# Altium footprint library Aluminum Electrolytic Capacitor.PcbLib: 3 footprints
Each footprint in its own frame and in the unit in brackets; x right, y up, seen from the top. Pads: shape width x height; smd on the part's side, far side on the other; paste and mask are expansions set on the pad; w line width, h text height; cw(c..) or ccw(c..) is an arc to the next point about the centre after c.
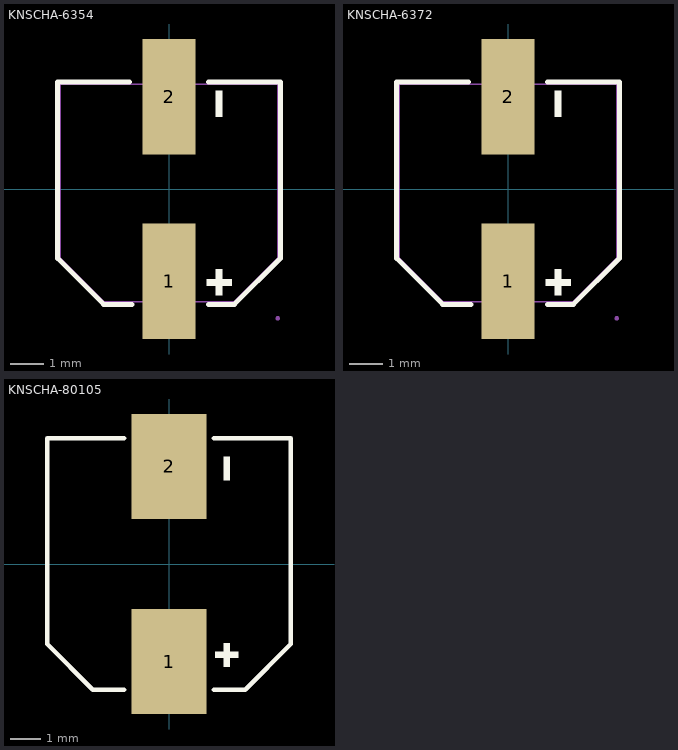
[diagram p0: the footprints below, top view; thin cyan lines are the x and y axes]

## KNSCHA-6354 [mm] "KNSCHA(科尼盛) 6.3x5.4mm 推荐焊盘"
pads (2):
  rect 1.6x3.5 smd: 1(0,-2.8) 2(0,2.8)
Top Overlay:
  region: 1.419,2.978 1.617,2.978 1.617,2.186 1.419,2.186
  region: 1.419,-3.226 1.617,-3.226 1.617,-2.434 1.419,-2.434
  region: 1.143,-2.929 1.905,-2.929 1.905,-2.731 1.143,-2.731
  lines w0.152: -1.2,-3.5 -1.12,-3.5 -1.981,-3.5 -3.376,-2.103 -3.376,3.251 -1.2,3.251 ; 1.2,-3.5 1.981,-3.5 3.376,-2.105 3.376,3.251 1.2,3.251
Mechanical 6:
  region: -0.099,2.978 0.099,2.978 0.099,2.186 -0.099,2.186
  region: -0.099,-3.226 0.099,-3.226 0.099,-2.434 -0.099,-2.434
  region: -0.66,-2.929 0.66,-2.929 0.66,-2.731 -0.66,-2.731
Mechanical 15:
  region: 3.3,-3.864 3.325,-3.864 3.36,-3.899 3.36,-3.949 3.325,-3.984 3.3,-3.984 3.275,-3.984 3.24,-3.949 3.24,-3.899 3.275,-3.864 3.3,-3.864
  region: -0.475,-3.924 -0.475,-1.374 0.475,-1.374 0.475,-3.924
  region: -0.475,1.126 -0.475,3.676 0.475,3.676 0.475,1.126
  lines w0.051: -3.3,-2.104 -1.98,-3.424 1.98,-3.424 3.3,-2.104 3.3,3.176 -3.3,3.176 -3.3,-2.104
3D body "Aluminum Electrolytic Capacitors-6.3x5.8.step": height 5.82, standoff 0, extent -3.3,-3.65 3.3,3.65

## KNSCHA-6372 [mm] "KNSCHA(科尼盛) 6.3x7.2mm 推荐焊盘"
pads (2):
  rect 1.6x3.5 smd: 1(0,-2.8) 2(0,2.8)
Top Overlay:
  region: 1.419,2.978 1.617,2.978 1.617,2.186 1.419,2.186
  region: 1.419,-3.226 1.617,-3.226 1.617,-2.434 1.419,-2.434
  region: 1.143,-2.929 1.905,-2.929 1.905,-2.731 1.143,-2.731
  lines w0.152: -1.2,-3.5 -1.12,-3.5 -1.981,-3.5 -3.376,-2.103 -3.376,3.251 -1.2,3.251 ; 1.2,-3.5 1.981,-3.5 3.376,-2.105 3.376,3.251 1.2,3.251
Mechanical 6:
  region: -0.099,2.978 0.099,2.978 0.099,2.186 -0.099,2.186
  region: -0.099,-3.226 0.099,-3.226 0.099,-2.434 -0.099,-2.434
  region: -0.66,-2.929 0.66,-2.929 0.66,-2.731 -0.66,-2.731
Mechanical 15:
  region: 3.3,-3.864 3.325,-3.864 3.36,-3.899 3.36,-3.949 3.325,-3.984 3.3,-3.984 3.275,-3.984 3.24,-3.949 3.24,-3.899 3.275,-3.864 3.3,-3.864
  region: -0.475,-3.924 -0.475,-1.374 0.475,-1.374 0.475,-3.924
  region: -0.475,1.126 -0.475,3.676 0.475,3.676 0.475,1.126
  lines w0.051: -3.3,-2.104 -1.98,-3.424 1.98,-3.424 3.3,-2.104 3.3,3.176 -3.3,3.176 -3.3,-2.104
3D body "Aluminum Electrolytic Capacitors-6.3x7.7.step": height 7.7, standoff 0, extent -3.3,-3.65 3.3,3.65

## KNSCHA-80105 [mm] "KNSCHA(科尼盛) 6x10.5mm 推荐焊盘"
pads (2):
  rect 2.5x3.5 smd: 1(0,-3.25) 2(0,3.25)
Top Overlay:
  region: 1.543,-3.129 2.305,-3.129 2.305,-2.931 1.543,-2.931
  region: 1.819,-3.426 2.017,-3.426 2.017,-2.634 1.819,-2.634
  region: 1.819,3.578 2.017,3.578 2.017,2.786 1.819,2.786
  lines w0.152: -1.5,-4.191 -2.542,-4.191 -4.064,-2.666 -4.064,4.191 -1.5,4.191 ; 1.5,-4.191 2.54,-4.191 4.064,-2.667 4.064,4.191 1.5,4.191
Mechanical 6:
  region: -0.66,-2.929 0.66,-2.929 0.66,-2.731 -0.66,-2.731
  region: -0.099,-3.226 0.099,-3.226 0.099,-2.434 -0.099,-2.434
  region: -0.099,2.978 0.099,2.978 0.099,2.186 -0.099,2.186
3D body "Aluminum Electrolytic Capacitors-8x10.5.step": height 9.85, standoff 0, extent -4.15,-4.5 4.15,4.5